# Altium schematic symbol library LOGO.SchLib: 2 symbols
Pins are listed as number, name and electrical type; pins without a type are passive.

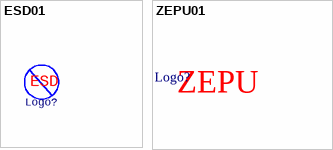
[diagram p0: symbols ESD01 to ZEPU01]

## ESD01
designator Logo?  (no BOM)
text: ESD

## ZEPU01
designator Logo?
text: ZEPU